# Altium footprint library Con Mod Jack PCB.PcbLib: 213 footprints (part 4 of 14)
Each footprint in its own frame and in the unit in brackets; x right, y up, seen from the top. Pads: shape width x height; smd on the part's side, far side on the other; paste and mask are expansions set on the pad; w line width, h text height; cw(c..) or ccw(c..) is an arc to the next point about the centre after c.
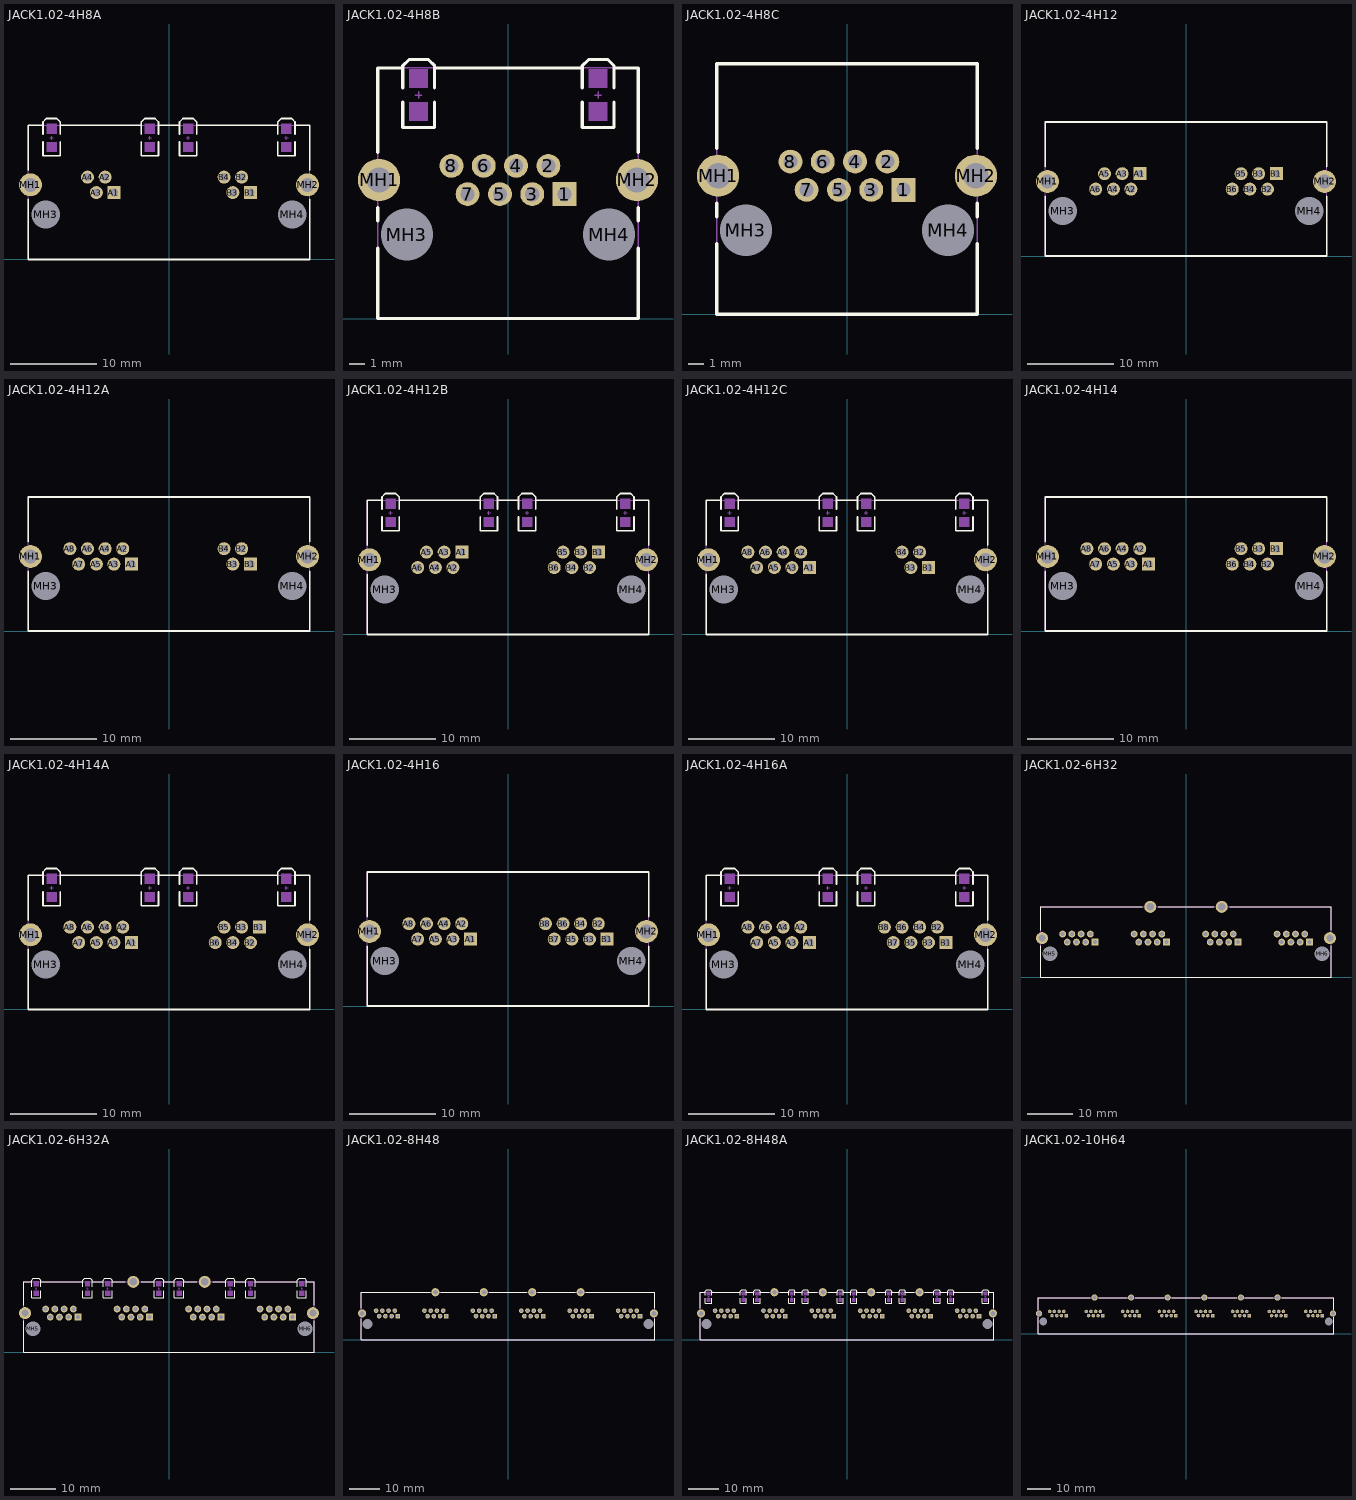
[diagram p3: the footprints below, top view; thin cyan lines are the x and y axes]

## JACK1.02-4H8A [mm] "Connector; PCB Jack, Thru-Hole; 2-Port, 6 Positions, 4 Loaded; Shielded with Lightpipes; Right Angle"
height 13.45
pads (12):
  rect 1.5x1.5 hole 0.9: A1(-6.35,7.72) B1(9.398,7.72)
  round 1.5 hole 0.9: A2(-7.366,9.498) A3(-8.382,7.72) A4(-9.398,9.498) B2(8.382,9.498) B3(7.366,7.72) B4(6.35,9.498)
  round 2.65 hole 1.6: MH1(-15.977,8.609) MH2(15.977,8.609)
  round 2.95 hole 3.25 unplated: MH3(-14.224,5.18) MH4(14.224,5.18)
Top Overlay:
  lines w0.2: -16.249,6.906 -16.249,0 16.249,0 16.249,6.906 ; -16.249,10.312 -16.249,15.47 -14.538,15.47 ; -14.538,13.578 -14.538,11.978 -12.538,11.978 -12.538,13.578 ; -14.538,14.461 -14.538,15.861 -14.138,16.261 -12.938,16.261 -12.538,15.861 -12.538,14.461 ; -12.538,15.47 -3.21,15.47 ; -3.21,13.578 -3.21,11.978 -1.21,11.978 -1.21,13.578 ; -3.21,14.461 -3.21,15.861 -2.81,16.261 -1.61,16.261 -1.21,15.861 -1.21,14.461 ; -1.21,15.47 1.21,15.47 ; 1.21,13.578 1.21,11.978 3.21,11.978 3.21,13.578 ; 1.21,14.461 1.21,15.861 1.61,16.261 2.81,16.261 3.21,15.861 3.21,14.461 ; 3.21,15.47 12.538,15.47 ; 12.538,13.578 12.538,11.978 14.538,11.978 14.538,13.578 ; 12.538,14.461 12.538,15.861 12.938,16.261 14.138,16.261 14.538,15.861 14.538,14.461 ; 14.538,15.47 16.249,15.47 16.249,10.312
Mechanical 1:
  rectangle: -14.138,12.378 -12.938,13.578
  rectangle: -14.138,14.461 -12.938,15.661
  rectangle: -2.81,12.378 -1.61,13.578
  rectangle: -2.81,14.461 -1.61,15.661
  rectangle: 1.61,12.378 2.81,13.578
  rectangle: 1.61,14.461 2.81,15.661
  rectangle: 12.938,12.378 14.138,13.578
  rectangle: 12.938,14.461 14.138,15.661
  lines w0.1: -13.738,14.019 -13.538,14.019 ; -13.538,13.819 -13.538,14.019 ; -13.538,14.219 -13.538,14.019 ; -13.338,14.019 -13.538,14.019 ; -2.41,14.019 -2.21,14.019 ; -2.21,13.819 -2.21,14.019 ; -2.21,14.219 -2.21,14.019 ; -2.01,14.019 -2.21,14.019 ; 2.01,14.019 2.21,14.019 ; 2.21,13.819 2.21,14.019 ; 2.21,14.219 2.21,14.019 ; 2.41,14.019 2.21,14.019 ; 13.338,14.019 13.538,14.019 ; 13.538,13.819 13.538,14.019 ; 13.538,14.219 13.538,14.019 ; 13.738,14.019 13.538,14.019
Mechanical 13:
  lines w0.1: -16.249,0 -16.249,15.47 16.249,15.47 16.249,0 -16.249,0
3D body: height 13.45, standoff 0, extent -16.248,0.001 16.249,15.469

## JACK1.02-4H8B [mm] "Connector; PCB Jack, Thru-Hole; 1-Port, 8 Positions, 8 Loaded; Shielded with Lightpipes; Right Angle"
height 13.53
pads (12):
  rect 1.5x1.5 hole 0.9: 1(3.556,7.82)
  round 1.5 hole 0.9: 2(2.54,9.598) 3(1.524,7.82) 4(0.508,9.598) 5(-0.508,7.82) 6(-1.524,9.598) 7(-2.54,7.82) 8(-3.556,9.598)
  round 2.65 hole 1.6: MH1(-8.103,8.709) MH2(8.103,8.709)
  round 2.95 hole 3.25 unplated: MH3(-6.35,5.28) MH4(6.35,5.28)
Top Overlay:
  lines w0.2: -8.19,4.434 -8.19,0 8.19,0 8.19,4.434 ; -8.19,6.126 -8.19,6.986 ; -8.19,10.432 -8.19,15.75 -6.613,15.75 ; -6.613,13.602 -6.613,12.002 -4.613,12.002 -4.613,13.602 ; -6.613,14.484 -6.613,15.884 -6.213,16.284 -5.013,16.284 -4.613,15.884 -4.613,14.484 ; -4.613,15.75 4.664,15.75 ; 4.664,13.602 4.664,12.002 6.664,12.002 6.664,13.602 ; 4.664,14.484 4.664,15.884 5.064,16.284 6.264,16.284 6.664,15.884 6.664,14.484 ; 6.664,15.75 8.19,15.75 8.19,10.432 ; 8.19,6.126 8.19,6.986
Mechanical 1:
  rectangle: 5.064,14.484 6.264,15.684
  rectangle: 5.064,12.402 6.264,13.602
  rectangle: -6.213,14.484 -5.013,15.684
  rectangle: -6.213,12.402 -5.013,13.602
  lines w0.1: -5.813,14.043 -5.613,14.043 ; -5.613,13.843 -5.613,14.043 ; -5.613,14.243 -5.613,14.043 ; -5.413,14.043 -5.613,14.043 ; 5.464,14.043 5.664,14.043 ; 5.664,13.843 5.664,14.043 ; 5.664,14.243 5.664,14.043 ; 5.864,14.043 5.664,14.043
Mechanical 13:
  lines w0.1: -8.19,0 8.19,0 8.19,15.75 -8.19,15.75 -8.19,0
3D body: height 13.53, standoff 0, extent -8.189,0.001 8.189,15.75

## JACK1.02-4H8C [mm] "Connector; PCB Jack, Thru-Hole; 1-Port, 8 Positions, 8 Loaded; Shielded without Lightpipes; Right Angle"
height 13.54
pads (12):
  rect 1.5x1.5 hole 0.9: 1(3.556,7.82)
  round 1.5 hole 0.9: 2(2.54,9.598) 3(1.524,7.82) 4(0.508,9.598) 5(-0.508,7.82) 6(-1.524,9.598) 7(-2.54,7.82) 8(-3.556,9.598)
  round 2.65 hole 1.6: MH1(-8.103,8.709) MH2(8.103,8.709)
  round 2.95 hole 3.25 unplated: MH3(-6.35,5.28) MH4(6.35,5.28)
Top Overlay:
  lines w0.2: -8.19,4.434 -8.19,0 8.19,0 8.19,4.434 ; -8.19,6.126 -8.19,6.986 ; -8.19,10.432 -8.19,15.75 8.19,15.75 8.19,10.432 ; 8.19,6.126 8.19,6.986
Mechanical 13:
  lines w0.1: -8.19,0 -8.19,15.75 8.19,15.75 8.19,0 -8.19,0
3D body: height 13.54, standoff 0, extent -8.19,0 8.19,15.75

## JACK1.02-4H12 [mm] "Connector; PCB Jack, Thru-Hole; 2-Port, 6 Positions, 6 Loaded; Shielded without Lightpipes; Right Angle"
height 13.45
pads (16):
  rect 1.5x1.5 hole 0.9: A1(-5.334,9.498) B1(10.414,9.498)
  round 1.5 hole 0.9: A2(-6.35,7.72) A3(-7.366,9.498) A4(-8.382,7.72) A5(-9.398,9.498) A6(-10.414,7.72) B2(9.398,7.72) B3(8.382,9.498) B4(7.366,7.72) B5(6.35,9.498) B6(5.334,7.72)
  round 2.65 hole 1.6: MH1(-15.977,8.609) MH2(15.977,8.609)
  round 2.95 hole 3.25 unplated: MH3(-14.224,5.18) MH4(14.224,5.18)
Top Overlay:
  lines w0.2: -16.249,6.906 -16.249,0 16.249,0 16.249,6.906 ; -16.249,10.312 -16.249,15.47 16.249,15.47 16.249,10.312
Mechanical 13:
  lines w0.1: -16.249,0 -16.249,15.47 16.249,15.47 16.249,0 -16.249,0
3D body: height 13.45, standoff 0, extent -16.249,0 16.249,15.47

## JACK1.02-4H12A [mm] "Connector; PCB Jack, Thru-Hole; 2-Port; Shielded without Lightpipes; Right Angle"
height 13.46
pads (16):
  rect 1.5x1.5 hole 0.9: A1(-4.318,7.72) B1(9.398,7.72)
  round 1.5 hole 0.9: A2(-5.334,9.498) A3(-6.35,7.72) A4(-7.366,9.498) A5(-8.382,7.72) A6(-9.398,9.498) A7(-10.414,7.72) A8(-11.43,9.498) B2(8.382,9.498) B3(7.366,7.72) B4(6.35,9.498)
  round 2.65 hole 1.6: MH1(-15.977,8.609) MH2(15.977,8.609)
  round 2.95 hole 3.25 unplated: MH3(-14.224,5.18) MH4(14.224,5.18)
Top Overlay:
  lines w0.2: -16.249,6.906 -16.249,0 16.249,0 16.249,6.906 ; -16.249,10.312 -16.249,15.47 16.249,15.47 16.249,10.312
Mechanical 13:
  lines w0.1: -16.249,0 16.249,0 16.249,15.47 -16.249,15.47 -16.249,0
3D body: height 13.46, standoff 0, extent -16.249,0 16.249,15.47

## JACK1.02-4H12B [mm] "Connector; PCB Jack, Thru-Hole; 2-Port, 6 Positions, 6 Loaded; Shielded with Lightpipes; Right Angle"
height 13.45
pads (16):
  rect 1.5x1.5 hole 0.9: A1(-5.334,9.498) B1(10.414,9.498)
  round 1.5 hole 0.9: A2(-6.35,7.72) A3(-7.366,9.498) A4(-8.382,7.72) A5(-9.398,9.498) A6(-10.414,7.72) B2(9.398,7.72) B3(8.382,9.498) B4(7.366,7.72) B5(6.35,9.498) B6(5.334,7.72)
  round 2.65 hole 1.6: MH1(-15.977,8.609) MH2(15.977,8.609)
  round 2.95 hole 3.25 unplated: MH3(-14.224,5.18) MH4(14.224,5.18)
Top Overlay:
  lines w0.2: -16.249,6.906 -16.249,0 16.249,0 16.249,6.906 ; -16.249,10.312 -16.249,15.47 -14.538,15.47 ; -14.538,13.578 -14.538,11.978 -12.538,11.978 -12.538,13.578 ; -14.538,14.461 -14.538,15.861 -14.138,16.261 -12.938,16.261 -12.538,15.861 -12.538,14.461 ; -12.538,15.47 -3.21,15.47 ; -3.21,13.578 -3.21,11.978 -1.21,11.978 -1.21,13.578 ; -3.21,14.461 -3.21,15.861 -2.81,16.261 -1.61,16.261 -1.21,15.861 -1.21,14.461 ; -1.21,15.47 1.21,15.47 ; 1.21,13.578 1.21,11.978 3.21,11.978 3.21,13.578 ; 1.21,14.461 1.21,15.861 1.61,16.261 2.81,16.261 3.21,15.861 3.21,14.461 ; 3.21,15.47 12.538,15.47 ; 12.538,13.578 12.538,11.978 14.538,11.978 14.538,13.578 ; 12.538,14.461 12.538,15.861 12.938,16.261 14.138,16.261 14.538,15.861 14.538,14.461 ; 14.538,15.47 16.249,15.47 16.249,10.312
Mechanical 1:
  rectangle: 12.938,14.461 14.138,15.661
  rectangle: 12.938,12.378 14.138,13.578
  rectangle: 1.61,14.461 2.81,15.661
  rectangle: 1.61,12.378 2.81,13.578
  rectangle: -2.81,14.461 -1.61,15.661
  rectangle: -2.81,12.378 -1.61,13.578
  rectangle: -14.138,14.461 -12.938,15.661
  rectangle: -14.138,12.378 -12.938,13.578
  lines w0.1: -13.738,14.019 -13.538,14.019 ; -13.538,13.819 -13.538,14.019 ; -13.538,14.219 -13.538,14.019 ; -13.338,14.019 -13.538,14.019 ; -2.41,14.019 -2.21,14.019 ; -2.21,13.819 -2.21,14.019 ; -2.21,14.219 -2.21,14.019 ; -2.01,14.019 -2.21,14.019 ; 2.01,14.019 2.21,14.019 ; 2.21,13.819 2.21,14.019 ; 2.21,14.219 2.21,14.019 ; 2.41,14.019 2.21,14.019 ; 13.338,14.019 13.538,14.019 ; 13.538,13.819 13.538,14.019 ; 13.538,14.219 13.538,14.019 ; 13.738,14.019 13.538,14.019
Mechanical 13:
  lines w0.1: -16.249,0 -16.249,15.47 16.249,15.47 16.249,0 -16.249,0
3D body: height 13.45, standoff 0, extent -16.248,0.001 16.248,15.469

## JACK1.02-4H12C [mm] "Connector; PCB Jack, Thru-Hole; 2-Port; Shielded with Lightpipes; Right Angle"
height 13.46
pads (16):
  rect 1.5x1.5 hole 0.9: A1(-4.318,7.72) B1(9.398,7.72)
  round 1.5 hole 0.9: A2(-5.334,9.498) A3(-6.35,7.72) A4(-7.366,9.498) A5(-8.382,7.72) A6(-9.398,9.498) A7(-10.414,7.72) A8(-11.43,9.498) B2(8.382,9.498) B3(7.366,7.72) B4(6.35,9.498)
  round 2.65 hole 1.6: MH1(-15.977,8.609) MH2(15.977,8.609)
  round 2.95 hole 3.25 unplated: MH3(-14.224,5.18) MH4(14.224,5.18)
Top Overlay:
  lines w0.2: -16.249,6.906 -16.249,0 16.249,0 16.249,6.906 ; -16.249,10.312 -16.249,15.47 -14.538,15.47 ; -14.538,13.578 -14.538,11.978 -12.538,11.978 -12.538,13.578 ; -14.538,14.461 -14.538,15.861 -14.138,16.261 -12.938,16.261 -12.538,15.861 -12.538,14.461 ; -12.538,15.47 -3.21,15.47 ; -3.21,13.578 -3.21,11.978 -1.21,11.978 -1.21,13.578 ; -3.21,14.461 -3.21,15.861 -2.81,16.261 -1.61,16.261 -1.21,15.861 -1.21,14.461 ; -1.21,15.47 1.21,15.47 ; 1.21,13.578 1.21,11.978 3.21,11.978 3.21,13.578 ; 1.21,14.461 1.21,15.861 1.61,16.261 2.81,16.261 3.21,15.861 3.21,14.461 ; 3.21,15.47 12.538,15.47 ; 12.538,13.578 12.538,11.978 14.538,11.978 14.538,13.578 ; 12.538,14.461 12.538,15.861 12.938,16.261 14.138,16.261 14.538,15.861 14.538,14.461 ; 14.538,15.47 16.249,15.47 16.249,10.312
Mechanical 1:
  rectangle: 12.938,14.461 14.138,15.661
  rectangle: 12.938,12.378 14.138,13.578
  rectangle: 1.61,14.461 2.81,15.661
  rectangle: 1.61,12.378 2.81,13.578
  rectangle: -2.81,14.461 -1.61,15.661
  rectangle: -2.81,12.378 -1.61,13.578
  rectangle: -14.138,14.461 -12.938,15.661
  rectangle: -14.138,12.378 -12.938,13.578
  lines w0.1: -13.738,14.019 -13.538,14.019 ; -13.538,13.819 -13.538,14.019 ; -13.538,14.219 -13.538,14.019 ; -13.338,14.019 -13.538,14.019 ; -2.41,14.019 -2.21,14.019 ; -2.21,13.819 -2.21,14.019 ; -2.21,14.219 -2.21,14.019 ; -2.01,14.019 -2.21,14.019 ; 2.01,14.019 2.21,14.019 ; 2.21,13.819 2.21,14.019 ; 2.21,14.219 2.21,14.019 ; 2.41,14.019 2.21,14.019 ; 13.338,14.019 13.538,14.019 ; 13.538,13.819 13.538,14.019 ; 13.538,14.219 13.538,14.019 ; 13.738,14.019 13.538,14.019
Mechanical 13:
  lines w0.1: -16.249,0 -16.249,15.47 16.249,15.47 16.249,0 -16.249,0
3D body: height 13.46, standoff 0, extent -16.248,0.001 16.249,15.469

## JACK1.02-4H14 [mm] "Connector; PCB Jack, Thru-Hole; 2-Port; Shielded without Lightpipes; Right Angle"
height 13.46
pads (18):
  rect 1.5x1.5 hole 0.9: A1(-4.318,7.72) B1(10.414,9.498)
  round 1.5 hole 0.9: A2(-5.334,9.498) A3(-6.35,7.72) A4(-7.366,9.498) A5(-8.382,7.72) A6(-9.398,9.498) A7(-10.414,7.72) A8(-11.43,9.498) B2(9.398,7.72) B3(8.382,9.498) B4(7.366,7.72) B5(6.35,9.498) B6(5.334,7.72)
  round 2.65 hole 1.6: MH1(-15.977,8.609) MH2(15.977,8.609)
  round 2.95 hole 3.25 unplated: MH3(-14.224,5.18) MH4(14.224,5.18)
Top Overlay:
  lines w0.2: -16.249,6.906 -16.249,0 16.249,0 16.249,6.906 ; -16.249,10.312 -16.249,15.47 16.249,15.47 16.249,10.312
Mechanical 13:
  lines w0.1: -16.249,0 -16.249,15.47 16.249,15.47 16.249,0 -16.249,0
3D body: height 13.46, standoff 0, extent -16.249,0 16.249,15.47

## JACK1.02-4H14A [mm] "Connector; PCB Jack, Thru-Hole; 2-Port; Shielded with Lightpipes; Right Angle"
height 13.46
pads (18):
  rect 1.5x1.5 hole 0.9: A1(-4.318,7.72) B1(10.414,9.498)
  round 1.5 hole 0.9: A2(-5.334,9.498) A3(-6.35,7.72) A4(-7.366,9.498) A5(-8.382,7.72) A6(-9.398,9.498) A7(-10.414,7.72) A8(-11.43,9.498) B2(9.398,7.72) B3(8.382,9.498) B4(7.366,7.72) B5(6.35,9.498) B6(5.334,7.72)
  round 2.65 hole 1.6: MH1(-15.977,8.609) MH2(15.977,8.609)
  round 2.95 hole 3.25 unplated: MH3(-14.224,5.18) MH4(14.224,5.18)
Top Overlay:
  lines w0.2: -16.249,6.906 -16.249,0 16.249,0 16.249,6.906 ; -16.249,10.312 -16.249,15.47 -14.538,15.47 ; -14.538,13.578 -14.538,11.978 -12.538,11.978 -12.538,13.578 ; -14.538,14.461 -14.538,15.861 -14.138,16.261 -12.938,16.261 -12.538,15.861 -12.538,14.461 ; -12.538,15.47 -3.21,15.47 ; -3.21,13.578 -3.21,11.978 -1.21,11.978 -1.21,13.578 ; -3.21,14.461 -3.21,15.861 -2.81,16.261 -1.61,16.261 -1.21,15.861 -1.21,14.461 ; -1.21,15.47 1.21,15.47 ; 1.21,13.578 1.21,11.978 3.21,11.978 3.21,13.578 ; 1.21,14.461 1.21,15.861 1.61,16.261 2.81,16.261 3.21,15.861 3.21,14.461 ; 3.21,15.47 12.538,15.47 ; 12.538,13.578 12.538,11.978 14.538,11.978 14.538,13.578 ; 12.538,14.461 12.538,15.861 12.938,16.261 14.138,16.261 14.538,15.861 14.538,14.461 ; 14.538,15.47 16.249,15.47 16.249,10.312
Mechanical 1:
  rectangle: 12.938,14.461 14.138,15.661
  rectangle: 12.938,12.378 14.138,13.578
  rectangle: 1.61,14.461 2.81,15.661
  rectangle: 1.61,12.378 2.81,13.578
  rectangle: -2.81,14.461 -1.61,15.661
  rectangle: -2.81,12.378 -1.61,13.578
  rectangle: -14.138,14.461 -12.938,15.661
  rectangle: -14.138,12.378 -12.938,13.578
  lines w0.1: -13.738,14.019 -13.538,14.019 ; -13.538,13.819 -13.538,14.019 ; -13.538,14.219 -13.538,14.019 ; -13.338,14.019 -13.538,14.019 ; -2.41,14.019 -2.21,14.019 ; -2.21,13.819 -2.21,14.019 ; -2.21,14.219 -2.21,14.019 ; -2.01,14.019 -2.21,14.019 ; 2.01,14.019 2.21,14.019 ; 2.21,13.819 2.21,14.019 ; 2.21,14.219 2.21,14.019 ; 2.41,14.019 2.21,14.019 ; 13.338,14.019 13.538,14.019 ; 13.538,13.819 13.538,14.019 ; 13.538,14.219 13.538,14.019 ; 13.738,14.019 13.538,14.019
Mechanical 13:
  lines w0.1: -16.249,0 16.249,0 16.249,15.47 -16.249,15.47 -16.249,0
3D body: height 13.46, standoff 0, extent -16.248,0.001 16.248,15.469

## JACK1.02-4H16 [mm] "Connector; PCB Jack, Thru-Hole; 2-Port, 8 Positions, 8 Loaded; Shielded without Lightpipes; Right Angle"
height 13.45
pads (20):
  rect 1.5x1.5 hole 0.9: A1(-4.318,7.72) B1(11.43,7.72)
  round 1.5 hole 0.9: A2(-5.334,9.498) A3(-6.35,7.72) A4(-7.366,9.498) A5(-8.382,7.72) A6(-9.398,9.498) A7(-10.414,7.72) A8(-11.43,9.498) B2(10.414,9.498) B3(9.398,7.72) B4(8.382,9.498) B5(7.366,7.72) B6(6.35,9.498) B7(5.334,7.72) B8(4.318,9.498)
  round 2.65 hole 1.6: MH1(-15.977,8.609) MH2(15.977,8.609)
  round 2.95 hole 3.25 unplated: MH3(-14.224,5.18) MH4(14.224,5.18)
Top Overlay:
  lines w0.2: -16.249,6.906 -16.249,0 16.249,0 16.249,6.906 ; -16.249,10.312 -16.249,15.47 16.249,15.47 16.249,10.312
Mechanical 13:
  lines w0.1: -16.249,0 -16.249,15.47 16.249,15.47 16.249,0 -16.249,0
3D body: height 13.45, standoff 0, extent -16.249,0 16.249,15.47

## JACK1.02-4H16A [mm] "Connector; PCB Jack, Thru-Hole; 2-Port, 8 Positions, 8 Loaded; Shielded with Lightpipes; Right Angle"
height 13.45
pads (20):
  rect 1.5x1.5 hole 0.9: A1(-4.318,7.72) B1(11.43,7.72)
  round 1.5 hole 0.9: A2(-5.334,9.498) A3(-6.35,7.72) A4(-7.366,9.498) A5(-8.382,7.72) A6(-9.398,9.498) A7(-10.414,7.72) A8(-11.43,9.498) B2(10.414,9.498) B3(9.398,7.72) B4(8.382,9.498) B5(7.366,7.72) B6(6.35,9.498) B7(5.334,7.72) B8(4.318,9.498)
  round 2.65 hole 1.6: MH1(-15.977,8.609) MH2(15.977,8.609)
  round 2.95 hole 3.25 unplated: MH3(-14.224,5.18) MH4(14.224,5.18)
Top Overlay:
  lines w0.2: -16.249,6.906 -16.249,0 16.249,0 16.249,6.906 ; -16.249,10.312 -16.249,15.47 -14.538,15.47 ; -14.538,13.578 -14.538,11.978 -12.538,11.978 -12.538,13.578 ; -14.538,14.461 -14.538,15.861 -14.138,16.261 -12.938,16.261 -12.538,15.861 -12.538,14.461 ; -12.538,15.47 -3.21,15.47 ; -3.21,13.578 -3.21,11.978 -1.21,11.978 -1.21,13.578 ; -3.21,14.461 -3.21,15.861 -2.81,16.261 -1.61,16.261 -1.21,15.861 -1.21,14.461 ; -1.21,15.47 1.21,15.47 ; 1.21,13.578 1.21,11.978 3.21,11.978 3.21,13.578 ; 1.21,14.461 1.21,15.861 1.61,16.261 2.81,16.261 3.21,15.861 3.21,14.461 ; 3.21,15.47 12.538,15.47 ; 12.538,13.578 12.538,11.978 14.538,11.978 14.538,13.578 ; 12.538,14.461 12.538,15.861 12.938,16.261 14.138,16.261 14.538,15.861 14.538,14.461 ; 14.538,15.47 16.249,15.47 16.249,10.312
Mechanical 1:
  rectangle: 12.938,14.461 14.138,15.661
  rectangle: 12.938,12.378 14.138,13.578
  rectangle: 1.61,14.461 2.81,15.661
  rectangle: 1.61,12.378 2.81,13.578
  rectangle: -2.81,14.461 -1.61,15.661
  rectangle: -2.81,12.378 -1.61,13.578
  rectangle: -14.138,14.461 -12.938,15.661
  rectangle: -14.138,12.378 -12.938,13.578
  lines w0.1: -13.738,14.019 -13.538,14.019 ; -13.538,13.819 -13.538,14.019 ; -13.538,14.219 -13.538,14.019 ; -13.338,14.019 -13.538,14.019 ; -2.41,14.019 -2.21,14.019 ; -2.21,13.819 -2.21,14.019 ; -2.21,14.219 -2.21,14.019 ; -2.01,14.019 -2.21,14.019 ; 2.01,14.019 2.21,14.019 ; 2.21,13.819 2.21,14.019 ; 2.21,14.219 2.21,14.019 ; 2.41,14.019 2.21,14.019 ; 13.338,14.019 13.538,14.019 ; 13.538,13.819 13.538,14.019 ; 13.538,14.219 13.538,14.019 ; 13.738,14.019 13.538,14.019
Mechanical 13:
  lines w0.1: -16.249,0 16.249,0 16.249,15.47 -16.249,15.47 -16.249,0
3D body: height 13.45, standoff 0, extent -16.248,0.001 16.248,15.469

## JACK1.02-6H32 [mm] "Connector; PCB Jack, Thru-Hole; 4-Port, 8 Positions, 8 Loaded; Shielded without Lightpipes; Right Angle"
height 13.45
pads (38):
  rect 1.5x1.5 hole 0.9: A1(-20.066,7.72) B1(-4.318,7.72) C1(11.43,7.72) D1(27.178,7.72)
  round 1.5 hole 0.9: A2(-21.082,9.498) A3(-22.098,7.72) A4(-23.114,9.498) A5(-24.13,7.72) A6(-25.146,9.498) A7(-26.162,7.72) A8(-27.178,9.498) B2(-5.334,9.498) B3(-6.35,7.72) B4(-7.366,9.498) B5(-8.382,7.72) B6(-9.398,9.498) B7(-10.414,7.72) B8(-11.43,9.498) C2(10.414,9.498) C3(9.398,7.72) C4(8.382,9.498) C5(7.366,7.72) C6(6.35,9.498) C7(5.334,7.72) C8(4.318,9.498) D2(26.162,9.498) D3(25.146,7.72) D4(24.13,9.498) D5(23.114,7.72) D6(22.098,9.498) D7(21.082,7.72) D8(20.066,9.498)
  round 2.65 hole 1.6: MH1(-31.725,8.609) MH2(-7.874,15.492) MH3(7.874,15.492) MH4(31.725,8.609)
  round 2.95 hole 3.25 unplated: MH5(-29.972,5.18) MH6(29.972,5.18)
Top Overlay:
  lines w0.2: -31.997,6.906 -31.997,0 31.997,0 31.997,6.906 ; -31.997,10.312 -31.997,15.47 -9.599,15.47 ; -6.149,15.47 6.149,15.47 ; 9.599,15.47 31.997,15.47 31.997,10.312
Mechanical 13:
  lines w0.1: -31.997,0 -31.997,15.47 31.997,15.47 31.997,0 -31.997,0
3D body: height 13.45, standoff 0, extent -31.997,0 31.997,15.47

## JACK1.02-6H32A [mm] "Connector; PCB Jack, Thru-Hole; 4-Port, 8 Positions, 8 Loaded; Shielded with Lightpipes; Right Angle"
height 13.45
pads (38):
  rect 1.5x1.5 hole 0.9: A1(-20.066,7.72) B1(-4.318,7.72) C1(11.43,7.72) D1(27.178,7.72)
  round 1.5 hole 0.9: A2(-21.082,9.498) A3(-22.098,7.72) A4(-23.114,9.498) A5(-24.13,7.72) A6(-25.146,9.498) A7(-26.162,7.72) A8(-27.178,9.498) B2(-5.334,9.498) B3(-6.35,7.72) B4(-7.366,9.498) B5(-8.382,7.72) B6(-9.398,9.498) B7(-10.414,7.72) B8(-11.43,9.498) C2(10.414,9.498) C3(9.398,7.72) C4(8.382,9.498) C5(7.366,7.72) C6(6.35,9.498) C7(5.334,7.72) C8(4.318,9.498) D2(26.162,9.498) D3(25.146,7.72) D4(24.13,9.498) D5(23.114,7.72) D6(22.098,9.498) D7(21.082,7.72) D8(20.066,9.498)
  round 2.65 hole 1.6: MH1(-31.725,8.609) MH2(-7.874,15.492) MH3(7.874,15.492) MH4(31.725,8.609)
  round 2.95 hole 3.25 unplated: MH5(-29.972,5.18) MH6(29.972,5.18)
Top Overlay:
  lines w0.2: -31.997,6.906 -31.997,0 31.997,0 31.997,6.906 ; -31.997,10.312 -31.997,15.47 -30.286,15.47 ; -30.286,13.578 -30.286,11.978 -28.286,11.978 -28.286,13.578 ; -30.286,14.461 -30.286,15.861 -29.886,16.261 -28.686,16.261 -28.286,15.861 -28.286,14.461 ; -28.286,15.47 -18.958,15.47 ; -18.958,13.578 -18.958,11.978 -16.958,11.978 -16.958,13.578 ; -18.958,14.461 -18.958,15.861 -18.558,16.261 -17.358,16.261 -16.958,15.861 -16.958,14.461 ; -16.958,15.47 -14.538,15.47 ; -14.538,13.578 -14.538,11.978 -12.538,11.978 -12.538,13.578 ; -14.538,14.461 -14.538,15.861 -14.138,16.261 -12.938,16.261 -12.538,15.861 -12.538,14.461 ; -12.538,15.47 -9.599,15.47 ; -6.149,15.47 -3.21,15.47 ; -3.21,13.578 -3.21,11.978 -1.21,11.978 -1.21,13.578 ; -3.21,14.461 -3.21,15.861 -2.81,16.261 -1.61,16.261 -1.21,15.861 -1.21,14.461 ; -1.21,15.47 1.21,15.47 ; 1.21,13.578 1.21,11.978 3.21,11.978 3.21,13.578 ; 1.21,14.461 1.21,15.861 1.61,16.261 2.81,16.261 3.21,15.861 3.21,14.461 ; 3.21,15.47 6.149,15.47 ; 9.599,15.47 12.538,15.47 ; 12.538,13.578 12.538,11.978 14.538,11.978 14.538,13.578 ; 12.538,14.461 12.538,15.861 12.938,16.261 14.138,16.261 14.538,15.861 14.538,14.461 ; 14.538,15.47 16.958,15.47 ; 16.958,13.578 16.958,11.978 18.958,11.978 18.958,13.578 ; 16.958,14.461 16.958,15.861 17.358,16.261 18.558,16.261 18.958,15.861 18.958,14.461 ; 18.958,15.47 28.286,15.47 ; 28.286,13.578 28.286,11.978 30.286,11.978 30.286,13.578 ; 28.286,14.461 28.286,15.861 28.686,16.261 29.886,16.261 30.286,15.861 30.286,14.461 ; 30.286,15.47 31.997,15.47 31.997,10.312
Mechanical 1:
  rectangle: -29.886,12.378 -28.686,13.578
  rectangle: -29.886,14.461 -28.686,15.661
  rectangle: -18.558,12.378 -17.358,13.578
  rectangle: -18.558,14.461 -17.358,15.661
  rectangle: -14.138,12.378 -12.938,13.578
  rectangle: -14.138,14.461 -12.938,15.661
  rectangle: -2.81,12.378 -1.61,13.578
  rectangle: -2.81,14.461 -1.61,15.661
  rectangle: 1.61,12.378 2.81,13.578
  rectangle: 1.61,14.461 2.81,15.661
  rectangle: 12.938,12.378 14.138,13.578
  rectangle: 12.938,14.461 14.138,15.661
  rectangle: 17.358,12.378 18.558,13.578
  rectangle: 17.358,14.461 18.558,15.661
  rectangle: 28.686,12.378 29.886,13.578
  rectangle: 28.686,14.461 29.886,15.661
  lines w0.1: -29.486,14.019 -29.286,14.019 ; -29.286,13.819 -29.286,14.019 ; -29.286,14.219 -29.286,14.019 ; -29.086,14.019 -29.286,14.019 ; -18.158,14.019 -17.958,14.019 ; -17.958,13.819 -17.958,14.019 ; -17.958,14.219 -17.958,14.019 ; -17.758,14.019 -17.958,14.019 ; -13.738,14.019 -13.538,14.019 ; -13.538,13.819 -13.538,14.019 ; -13.538,14.219 -13.538,14.019 ; -13.338,14.019 -13.538,14.019 ; -2.41,14.019 -2.21,14.019 ; -2.21,13.819 -2.21,14.019 ; -2.21,14.219 -2.21,14.019 ; -2.01,14.019 -2.21,14.019 ; 2.01,14.019 2.21,14.019 ; 2.21,13.819 2.21,14.019 ; 2.21,14.219 2.21,14.019 ; 2.41,14.019 2.21,14.019 ; 13.338,14.019 13.538,14.019 ; 13.538,13.819 13.538,14.019 ; 13.538,14.219 13.538,14.019 ; 13.738,14.019 13.538,14.019 ; 17.758,14.019 17.958,14.019 ; 17.958,13.819 17.958,14.019 ; 17.958,14.219 17.958,14.019 ; 18.158,14.019 17.958,14.019 ; 29.086,14.019 29.286,14.019 ; 29.286,13.819 29.286,14.019 ; 29.286,14.219 29.286,14.019 ; 29.486,14.019 29.286,14.019
Mechanical 13:
  lines w0.1: -31.997,0 -31.997,15.47 31.997,15.47 31.997,0 -31.997,0
3D body: height 13.45, standoff 0, extent -31.996,0.001 31.996,15.469

## JACK1.02-8H48 [mm] "Connector; PCB Jack, Thru-Hole; 6-Port, 8 Positions, 8 Loaded; Shielded without Lightpipes; Right Angle"
height 13.45
pads (56):
  rect 1.5x1.5 hole 0.9: A1(-35.814,7.72) B1(-20.066,7.72) C1(-4.318,7.72) D1(11.43,7.72) E1(27.178,7.72) F1(42.926,7.72)
  round 1.5 hole 0.9: A2(-36.83,9.498) A3(-37.846,7.72) A4(-38.862,9.498) A5(-39.878,7.72) A6(-40.894,9.498) A7(-41.91,7.72) A8(-42.926,9.498) B2(-21.082,9.498) B3(-22.098,7.72) B4(-23.114,9.498) B5(-24.13,7.72) B6(-25.146,9.498) B7(-26.162,7.72) B8(-27.178,9.498) C2(-5.334,9.498) C3(-6.35,7.72) C4(-7.366,9.498) C5(-8.382,7.72) C6(-9.398,9.498) C7(-10.414,7.72) C8(-11.43,9.498) D2(10.414,9.498) D3(9.398,7.72) D4(8.382,9.498) D5(7.366,7.72) D6(6.35,9.498) D7(5.334,7.72) D8(4.318,9.498) E2(26.162,9.498) E3(25.146,7.72) E4(24.13,9.498) E5(23.114,7.72) E6(22.098,9.498) E7(21.082,7.72) E8(20.066,9.498) F2(41.91,9.498) F3(40.894,7.72) F4(39.878,9.498) F5(38.862,7.72) F6(37.846,9.498) F7(36.83,7.72) F8(35.814,9.498)
  round 2.65 hole 1.6: MH1(-47.473,8.609) MH2(-23.622,15.492) MH3(-7.874,15.492) MH4(7.874,15.492) MH5(23.622,15.492) MH6(47.473,8.609)
  round 2.95 hole 3.25 unplated: MH7(-45.72,5.18) MH8(45.72,5.18)
Top Overlay:
  lines w0.2: -47.745,6.906 -47.745,0 47.745,0 47.745,6.906 ; -47.745,10.312 -47.745,15.47 -25.347,15.47 ; -21.897,15.47 -9.599,15.47 ; -6.149,15.47 6.149,15.47 ; 9.599,15.47 21.897,15.47 ; 25.347,15.47 47.745,15.47 47.745,10.312
Mechanical 13:
  lines w0.1: -47.745,0 47.745,0 47.745,15.47 -47.745,15.47 -47.745,0
3D body: height 13.45, standoff 0, extent -47.745,0 47.745,15.47

## JACK1.02-8H48A [mm] "Connector; PCB Jack, Thru-Hole; 6-Port, 8 Positions, 8 Loaded; Shielded with Lightpipes; Right Angle"
height 13.45
pads (56):
  rect 1.5x1.5 hole 0.9: A1(-35.814,7.72) B1(-20.066,7.72) C1(-4.318,7.72) D1(11.43,7.72) E1(27.178,7.72) F1(42.926,7.72)
  round 1.5 hole 0.9: A2(-36.83,9.498) A3(-37.846,7.72) A4(-38.862,9.498) A5(-39.878,7.72) A6(-40.894,9.498) A7(-41.91,7.72) A8(-42.926,9.498) B2(-21.082,9.498) B3(-22.098,7.72) B4(-23.114,9.498) B5(-24.13,7.72) B6(-25.146,9.498) B7(-26.162,7.72) B8(-27.178,9.498) C2(-5.334,9.498) C3(-6.35,7.72) C4(-7.366,9.498) C5(-8.382,7.72) C6(-9.398,9.498) C7(-10.414,7.72) C8(-11.43,9.498) D2(10.414,9.498) D3(9.398,7.72) D4(8.382,9.498) D5(7.366,7.72) D6(6.35,9.498) D7(5.334,7.72) D8(4.318,9.498) E2(26.162,9.498) E3(25.146,7.72) E4(24.13,9.498) E5(23.114,7.72) E6(22.098,9.498) E7(21.082,7.72) E8(20.066,9.498) F2(41.91,9.498) F3(40.894,7.72) F4(39.878,9.498) F5(38.862,7.72) F6(37.846,9.498) F7(36.83,7.72) F8(35.814,9.498)
  round 2.65 hole 1.6: MH1(-47.473,8.609) MH2(-23.622,15.492) MH3(-7.874,15.492) MH4(7.874,15.492) MH5(23.622,15.492) MH6(47.473,8.609)
  round 2.95 hole 3.25 unplated: MH7(-45.72,5.18) MH8(45.72,5.18)
Top Overlay:
  lines w0.2: -47.745,6.906 -47.745,0 47.745,0 47.745,6.906 ; -47.745,10.312 -47.745,15.47 -46.034,15.47 ; -46.034,13.578 -46.034,11.978 -44.034,11.978 -44.034,13.578 ; -46.034,14.461 -46.034,15.861 -45.634,16.261 -44.434,16.261 -44.034,15.861 -44.034,14.461 ; -44.034,15.47 -34.706,15.47 ; -34.706,13.578 -34.706,11.978 -32.706,11.978 -32.706,13.578 ; -34.706,14.461 -34.706,15.861 -34.306,16.261 -33.106,16.261 -32.706,15.861 -32.706,14.461 ; -32.706,15.47 -30.286,15.47 ; -30.286,13.578 -30.286,11.978 -28.286,11.978 -28.286,13.578 ; -30.286,14.461 -30.286,15.861 -29.886,16.261 -28.686,16.261 -28.286,15.861 -28.286,14.461 ; -28.286,15.47 -25.347,15.47 ; -21.897,15.47 -18.958,15.47 ; -18.958,13.578 -18.958,11.978 -16.958,11.978 -16.958,13.578 ; -18.958,14.461 -18.958,15.861 -18.558,16.261 -17.358,16.261 -16.958,15.861 -16.958,14.461 ; -16.958,15.47 -14.538,15.47 ; -14.538,13.578 -14.538,11.978 -12.538,11.978 -12.538,13.578 ; -14.538,14.461 -14.538,15.861 -14.138,16.261 -12.938,16.261 -12.538,15.861 -12.538,14.461 ; -12.538,15.47 -9.599,15.47 ; -6.149,15.47 -3.21,15.47 ; -3.21,13.578 -3.21,11.978 -1.21,11.978 -1.21,13.578 ; -3.21,14.461 -3.21,15.861 -2.81,16.261 -1.61,16.261 -1.21,15.861 -1.21,14.461 ; -1.21,15.47 1.21,15.47 ; 1.21,13.578 1.21,11.978 3.21,11.978 3.21,13.578 ; 1.21,14.461 1.21,15.861 1.61,16.261 2.81,16.261 3.21,15.861 3.21,14.461 ; 3.21,15.47 6.149,15.47 ; 9.599,15.47 12.538,15.47 ; 12.538,13.578 12.538,11.978 14.538,11.978 14.538,13.578 ; 12.538,14.461 12.538,15.861 12.938,16.261 14.138,16.261 14.538,15.861 14.538,14.461 ; 14.538,15.47 16.958,15.47 ; 16.958,13.578 16.958,11.978 18.958,11.978 18.958,13.578 ; 16.958,14.461 16.958,15.861 17.358,16.261 18.558,16.261 18.958,15.861 18.958,14.461 ; 18.958,15.47 21.897,15.47 ; 25.347,15.47 28.286,15.47 ; 28.286,13.578 28.286,11.978 30.286,11.978 30.286,13.578 ; 28.286,14.461 28.286,15.861 28.686,16.261 29.886,16.261 30.286,15.861 30.286,14.461 ; 30.286,15.47 32.706,15.47 ; 32.706,13.578 32.706,11.978 34.706,11.978 34.706,13.578 ; 32.706,14.461 32.706,15.861 33.106,16.261 34.306,16.261 34.706,15.861 34.706,14.461 ; 34.706,15.47 44.034,15.47 ; 44.034,13.578 44.034,11.978 46.034,11.978 46.034,13.578 ; 44.034,14.461 44.034,15.861 44.434,16.261 45.634,16.261 46.034,15.861 46.034,14.461 ; 46.034,15.47 47.745,15.47 47.745,10.312
Mechanical 1:
  rectangle: 44.434,14.461 45.634,15.661
  rectangle: 44.434,12.378 45.634,13.578
  rectangle: 33.106,14.461 34.306,15.661
  rectangle: 33.106,12.378 34.306,13.578
  rectangle: 28.686,14.461 29.886,15.661
  rectangle: 28.686,12.378 29.886,13.578
  rectangle: 17.358,14.461 18.558,15.661
  rectangle: 17.358,12.378 18.558,13.578
  rectangle: 12.938,14.461 14.138,15.661
  rectangle: 12.938,12.378 14.138,13.578
  rectangle: 1.61,14.461 2.81,15.661
  rectangle: 1.61,12.378 2.81,13.578
  rectangle: -2.81,14.461 -1.61,15.661
  rectangle: -2.81,12.378 -1.61,13.578
  rectangle: -14.138,14.461 -12.938,15.661
  rectangle: -14.138,12.378 -12.938,13.578
  rectangle: -18.558,14.461 -17.358,15.661
  rectangle: -18.558,12.378 -17.358,13.578
  rectangle: -29.886,14.461 -28.686,15.661
  rectangle: -29.886,12.378 -28.686,13.578
  rectangle: -34.306,14.461 -33.106,15.661
  rectangle: -34.306,12.378 -33.106,13.578
  rectangle: -45.634,14.461 -44.434,15.661
  rectangle: -45.634,12.378 -44.434,13.578
  lines w0.1: -45.234,14.019 -45.034,14.019 ; -45.034,13.819 -45.034,14.019 ; -45.034,14.219 -45.034,14.019 ; -44.834,14.019 -45.034,14.019 ; -33.906,14.019 -33.706,14.019 ; -33.706,13.819 -33.706,14.019 ; -33.706,14.219 -33.706,14.019 ; -33.506,14.019 -33.706,14.019 ; -29.486,14.019 -29.286,14.019 ; -29.286,13.819 -29.286,14.019 ; -29.286,14.219 -29.286,14.019 ; -29.086,14.019 -29.286,14.019 ; -18.158,14.019 -17.958,14.019 ; -17.958,13.819 -17.958,14.019 ; -17.958,14.219 -17.958,14.019 ; -17.758,14.019 -17.958,14.019 ; -13.738,14.019 -13.538,14.019 ; -13.538,13.819 -13.538,14.019 ; -13.538,14.219 -13.538,14.019 ; -13.338,14.019 -13.538,14.019 ; -2.41,14.019 -2.21,14.019 ; -2.21,13.819 -2.21,14.019 ; -2.21,14.219 -2.21,14.019 ; -2.01,14.019 -2.21,14.019 ; 2.01,14.019 2.21,14.019 ; 2.21,13.819 2.21,14.019 ; 2.21,14.219 2.21,14.019 ; 2.41,14.019 2.21,14.019 ; 13.338,14.019 13.538,14.019 ; 13.538,13.819 13.538,14.019 ; 13.538,14.219 13.538,14.019 ; 13.738,14.019 13.538,14.019 ; 17.758,14.019 17.958,14.019 ; 17.958,13.819 17.958,14.019 ; 17.958,14.219 17.958,14.019 ; 18.158,14.019 17.958,14.019 ; 29.086,14.019 29.286,14.019 ; 29.286,13.819 29.286,14.019 ; 29.286,14.219 29.286,14.019 ; 29.486,14.019 29.286,14.019 ; 33.506,14.019 33.706,14.019 ; 33.706,13.819 33.706,14.019 ; 33.706,14.219 33.706,14.019 ; 33.906,14.019 33.706,14.019 ; 44.834,14.019 45.034,14.019 ; 45.034,13.819 45.034,14.019 ; 45.034,14.219 45.034,14.019 ; 45.234,14.019 45.034,14.019
Mechanical 13:
  lines w0.1: -47.745,0 47.745,0 47.745,15.47 -47.745,15.47 -47.745,0
3D body: height 13.45, standoff 0, extent -47.744,0.001 47.744,15.469

## JACK1.02-10H64 [mm] "Connector; PCB Jack, Thru-Hole; 8-Port, 8 Positions, 8 Loaded; Shielded without Lightpipes; Right Angle"
height 13.45
pads (74):
  rect 1.5x1.5 hole 0.9: A1(-51.562,7.72) B1(-35.814,7.72) C1(-20.066,7.72) D1(-4.318,7.72) E1(11.43,7.72) F1(27.178,7.72) G1(42.926,7.72) H1(58.674,7.72)
  round 1.5 hole 0.9: A2(-52.578,9.498) A3(-53.594,7.72) A4(-54.61,9.498) A5(-55.626,7.72) A6(-56.642,9.498) A7(-57.658,7.72) A8(-58.674,9.498) B2(-36.83,9.498) B3(-37.846,7.72) B4(-38.862,9.498) B5(-39.878,7.72) B6(-40.894,9.498) B7(-41.91,7.72) B8(-42.926,9.498) C2(-21.082,9.498) C3(-22.098,7.72) C4(-23.114,9.498) C5(-24.13,7.72) C6(-25.146,9.498) C7(-26.162,7.72) C8(-27.178,9.498) D2(-5.334,9.498) D3(-6.35,7.72) D4(-7.366,9.498) D5(-8.382,7.72) D6(-9.398,9.498) D7(-10.414,7.72) D8(-11.43,9.498) E2(10.414,9.498) E3(9.398,7.72) E4(8.382,9.498) E5(7.366,7.72) E6(6.35,9.498) E7(5.334,7.72) E8(4.318,9.498) F2(26.162,9.498) F3(25.146,7.72) F4(24.13,9.498) F5(23.114,7.72) F6(22.098,9.498) F7(21.082,7.72) F8(20.066,9.498) G2(41.91,9.498) G3(40.894,7.72) G4(39.878,9.498) G5(38.862,7.72) G6(37.846,9.498) G7(36.83,7.72) G8(35.814,9.498) H2(57.658,9.498) H3(56.642,7.72) H4(55.626,9.498) H5(54.61,7.72) H6(53.594,9.498) H7(52.578,7.72) H8(51.562,9.498)
  round 2.65 hole 1.6: MH1(-63.221,8.609) MH2(-39.37,15.492) MH3(-23.622,15.492) MH4(-7.874,15.492) MH5(7.874,15.492) MH6(23.622,15.492) MH7(39.37,15.492) MH8(63.221,8.609)
  round 2.95 hole 3.25 unplated: MH9(-61.468,5.18) MH10(61.468,5.18)
Top Overlay:
  lines w0.2: -63.493,6.906 -63.493,0 63.493,0 63.493,6.906 ; -63.493,10.312 -63.493,15.47 -41.095,15.47 ; -37.645,15.47 -25.347,15.47 ; -21.897,15.47 -9.599,15.47 ; -6.149,15.47 6.149,15.47 ; 9.599,15.47 21.897,15.47 ; 25.347,15.47 37.645,15.47 ; 41.095,15.47 63.493,15.47 63.493,10.312
Mechanical 13:
  lines w0.1: -63.493,0 -63.493,15.47 63.493,15.47 63.493,0 -63.493,0
3D body: height 13.45, standoff 0, extent -63.493,0 63.493,15.47